# EAGLE library part 6PIN (library connector)
2.54mm pitch 6x1 pin Connector (Available as Headers or Pins)
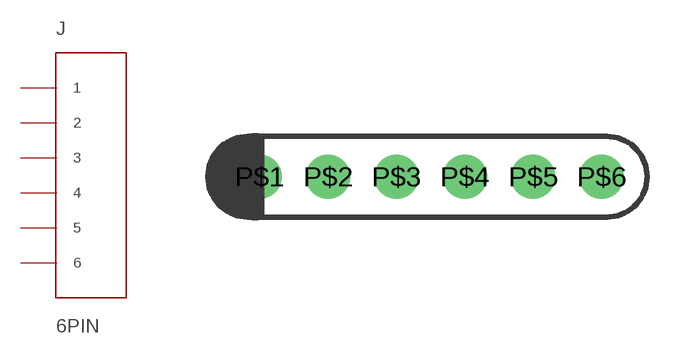
[diagram p0: symbol with the pads of 6PIN; footprint 6PIN]

Designator prefix J

## 6PIN_2.54  [6PIN]
P$1  1
P$2  2
P$3  3
P$4  4
P$5  5
P$6  6

## Footprint 6PIN (pad centres in mm)
drill 1.1: P$1 -6.35,0; P$2 -3.81,0; P$3 -1.27,0; P$4 1.27,0; P$5 3.81,0; P$6 6.35,0